# Altium schematic symbol library POWR0001_BCR_LT1513.SchLib: 4 symbols
Pins are listed as number, name and electrical type; pins without a type are passive.

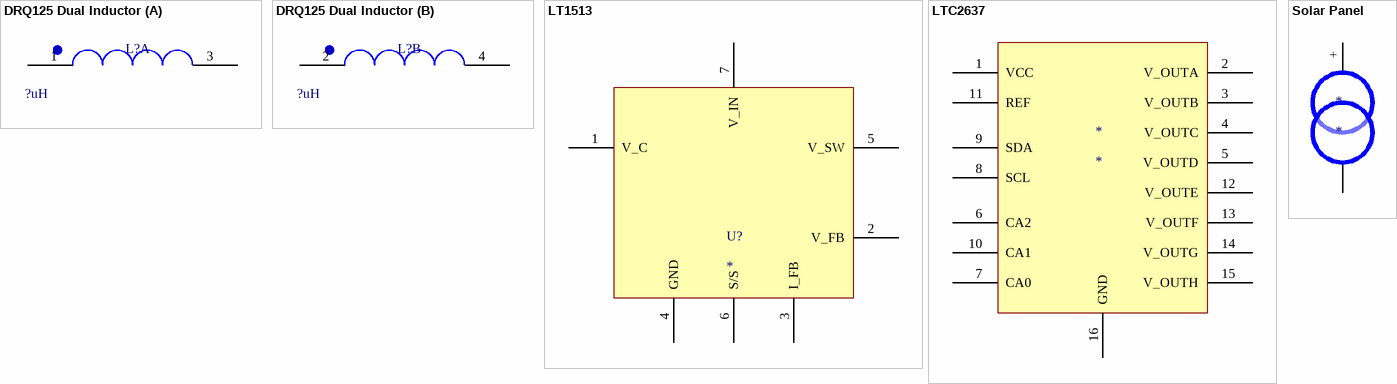
[diagram p0: symbols DRQ125 Dual Inductor to Solar Panel]

## DRQ125 Dual Inductor
designator L?  value ?uH  (hidden comment: *)
footprint DRQ125
part A pins: 1 17, 3 18
part B pins: 2 17, 4 18

## LT1513
designator U?
footprint TO152P1396X238-8N (D2-PAK, 8-Pads, Body 9.4x10.5mm (max), IPC Medium Density)
pins: 1 V_C, 2 V_FB, 3 I_FB, 4 GND, 5 V_SW, 6 S/S, 7 V_IN

## LTC2637
designator *
footprint LTC2637
pins: 1 VCC, 2 V_OUTA, 3 V_OUTB, 4 V_OUTC, 5 V_OUTD, 6 CA2, 7 CA0, 8 SCL, 9 SDA, 10 CA1, 11 REF, 12 V_OUTE, 13 V_OUTF, 14 V_OUTG, 15 V_OUTH, 16 GND

## Solar Panel
designator *
pins: 2, + 1